# Altium schematic symbol library Schlib1.SchLib: 26 symbols
Pins are listed as number, name and electrical type; pins without a type are passive.

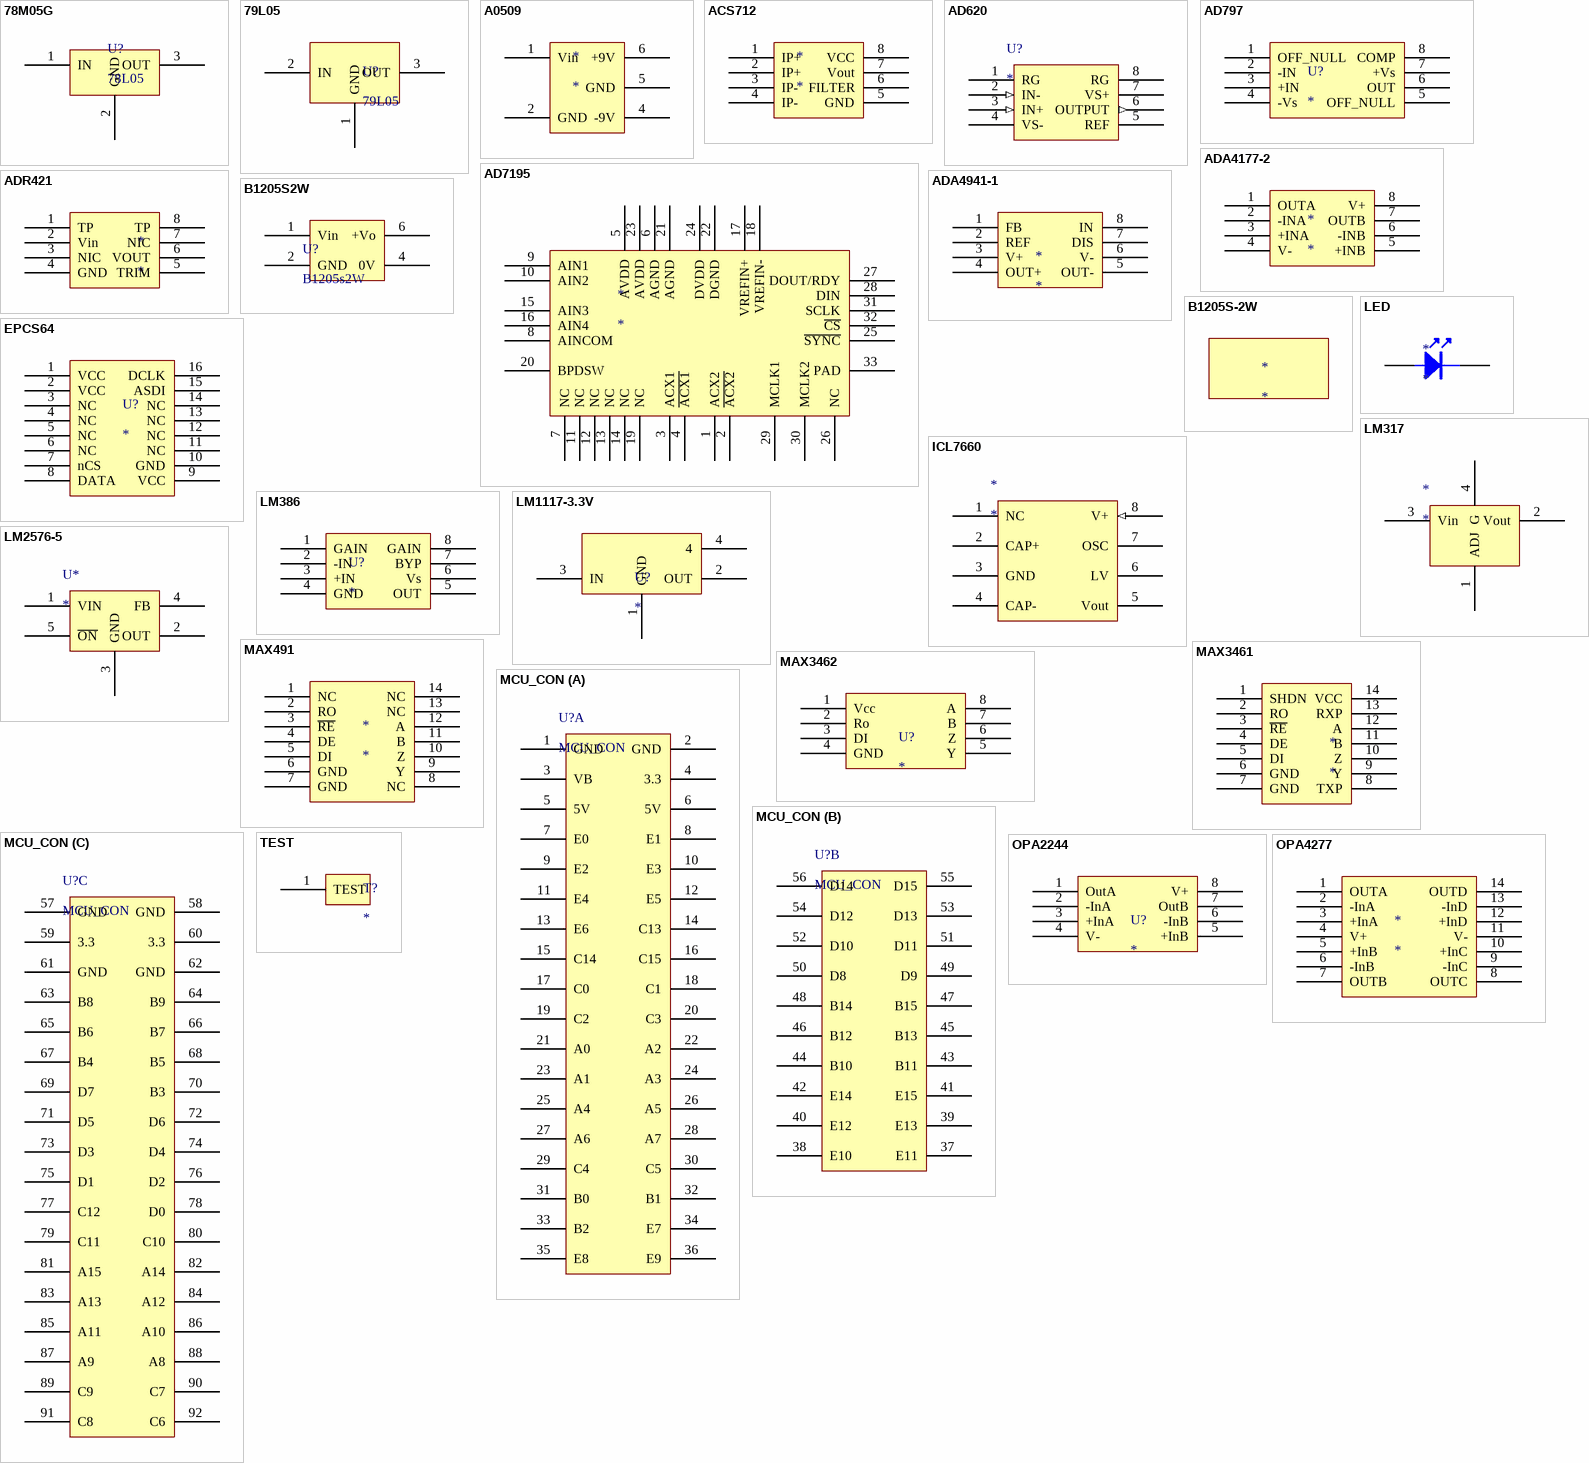
[diagram p0: symbols 78M05G to TEST]

## 78M05G
designator U?, comment 78L05
pins: 1 IN, 2 GND, 3 OUT

## 79L05
designator U?
pins: 1 GND, 2 IN, 3 OUT

## A0509
designator *
pins: 1 Vin, 2 GND, 4 -9V, 5 GND, 6 +9V

## ACS712
designator *
pins: 1 IP+, 2 IP+, 3 IP-, 4 IP-, 5 GND, 6 FILTER, 7 Vout, 8 VCC

## AD620
designator U?
footprint SO8
pins: 1 RG, 2 IN- (in), 3 IN+ (in), 4 VS- (power), 5 REF, 6 OUTPUT (out), 7 VS+ (power), 8 RG

## AD797
designator U?
pins: 1 OFF_NULL, 2 -IN, 3 +IN, 4 -Vs, 5 OFF_NULL, 6 OUT, 7 +Vs, 8 COMP

## AD7195
designator *
pins: 1 ACX2, 2 ~{ACX2}, 3 ACX1, 4 ~{ACX1}, 5 AVDD, 6 AGND, 7 NC, 8 AINCOM, 9 AIN1, 10 AIN2, 11 NC, 12 NC, 13 NC, 14 NC, 15 AIN3, 16 AIN4, 17 VREFIN+, 18 VREFIN-, 19 NC, 20 BPDSW, 21 AGND, 22 DGND, 23 AVDD, 24 DVDD, 25 ~{SYNC}, 26 NC, 27 DOUT/RDY, 28 DIN, 29 MCLK1, 30 MCLK2, 31 SCLK, 32 ~{CS}, 33 PAD

## ADA4177-2
designator *
pins: 1 OUTA, 2 -INA, 3 +INA, 4 V-, 5 +INB, 6 -INB, 7 OUTB, 8 V+

## ADA4941-1
designator *
pins: 1 FB, 2 REF, 3 V+, 4 OUT+, 5 OUT-, 6 V-, 7 DIS, 8 IN

## ADR421
designator *
pins: 1 TP, 2 Vin, 3 NIC, 4 GND, 5 TRIM, 6 VOUT, 7 NIC, 8 TP

## B1205S2W
designator U?, comment B1205s2W
pins: 1 Vin, 2 GND, 4 0V, 6 +Vo

## B1205S-2W
designator *

## EPCS64
designator U?
pins: 1 VCC, 2 VCC, 3 NC, 4 NC, 5 NC, 6 NC, 7 nCS, 8 DATA, 9 VCC, 10 GND, 11 NC, 12 NC, 13 NC, 14 NC, 15 ASDI, 16 DCLK

## ICL7660
designator *
footprint SO8
pins: 1 NC, 2 CAP+, 3 GND (power), 4 CAP-, 5 Vout, 6 LV, 7 OSC, 8 V+ (in)

## LED
designator *
pins: 1 A, 2 K

## LM317
designator *
pins: 1 ADJ, 2 Vout, 3 Vin, 4 G

## LM386
designator U?
pins: 1 GAIN, 2 -IN, 3 +IN, 4 GND, 5 OUT, 6 Vs, 7 BYP, 8 GAIN

## LM1117-3.3V
designator U?
pins: 1 GND, 2 OUT, 3 IN, 4

## LM2576-5
designator U*
footprint lm2596
pins: 1 VIN, 2 OUT, 3 GND, 4 FB, 5 ~{ON}

## MAX491
designator *
pins: 1 NC, 2 RO, 3 ~{RE}, 4 DE, 5 DI, 6 GND, 7 GND, 8 NC, 9 Y, 10 Z, 11 B, 12 A, 13 NC, 14 NC

## MAX3461
designator *
pins: 1 SHDN, 2 RO, 3 ~{RE}, 4 DE, 5 DI, 6 GND, 7 GND, 8 TXP, 9 Y, 10 Z, 11 B, 12 A, 13 RXP, 14 VCC

## MAX3462
designator U?
pins: 1 Vcc, 2 Ro, 3 DI, 4 GND, 5 Y, 6 Z, 7 B, 8 A

## MCU_CON
designator U?
footprint MCU_CON (Connector for STM32F407VET6 mini Borad)
part A pins: 1 GND, 2 GND, 3 VB, 4 3.3, 5 5V, 6 5V, 7 E0, 8 E1, 9 E2, 10 E3, 11 E4, 12 E5, 13 E6, 14 C13, 15 C14, 16 C15, 17 C0, 18 C1, 19 C2, 20 C3, 21 A0, 22 A2, 23 A1, 24 A3, 25 A4, 26 A5, 27 A6, 28 A7, 29 C4, 30 C5, 31 B0, 32 B1, 33 B2, 34 E7, 35 E8, 36 E9
part B pins: 37 E11, 38 E10, 39 E13, 40 E12, 41 E15, 42 E14, 43 B11, 44 B10, 45 B13, 46 B12, 47 B15, 48 B14, 49 D9, 50 D8, 51 D11, 52 D10, 53 D13, 54 D12, 55 D15, 56 D14
part C pins: 57 GND, 58 GND, 59 3.3, 60 3.3, 61 GND, 62 GND, 63 B8, 64 B9, 65 B6, 66 B7, 67 B4, 68 B5, 69 D7, 70 B3, 71 D5, 72 D6, 73 D3, 74 D4, 75 D1, 76 D2, 77 C12, 78 D0, 79 C11, 80 C10, 81 A15, 82 A14, 83 A13, 84 A12, 85 A11, 86 A10, 87 A9, 88 A8, 89 C9, 90 C7, 91 C8, 92 C6

## OPA2244
designator U?
pins: 1 OutA, 2 -InA, 3 +InA, 4 V-, 5 +InB, 6 -InB, 7 OutB, 8 V+

## OPA4277
designator *
pins: 1 OUTA, 2 -InA, 3 +InA, 4 V+, 5 +InB, 6 -InB, 7 OUTB, 8 OUTC, 9 -InC, 10 +InC, 11 V-, 12 +InD, 13 -InD, 14 OUTD

## TEST
designator T?
pins: 1 TEST